# Altium schematic symbol library IDCI_WifiNode_2_R00.SchLib: 17 symbols
Pins are listed as number, name and electrical type; pins without a type are passive.

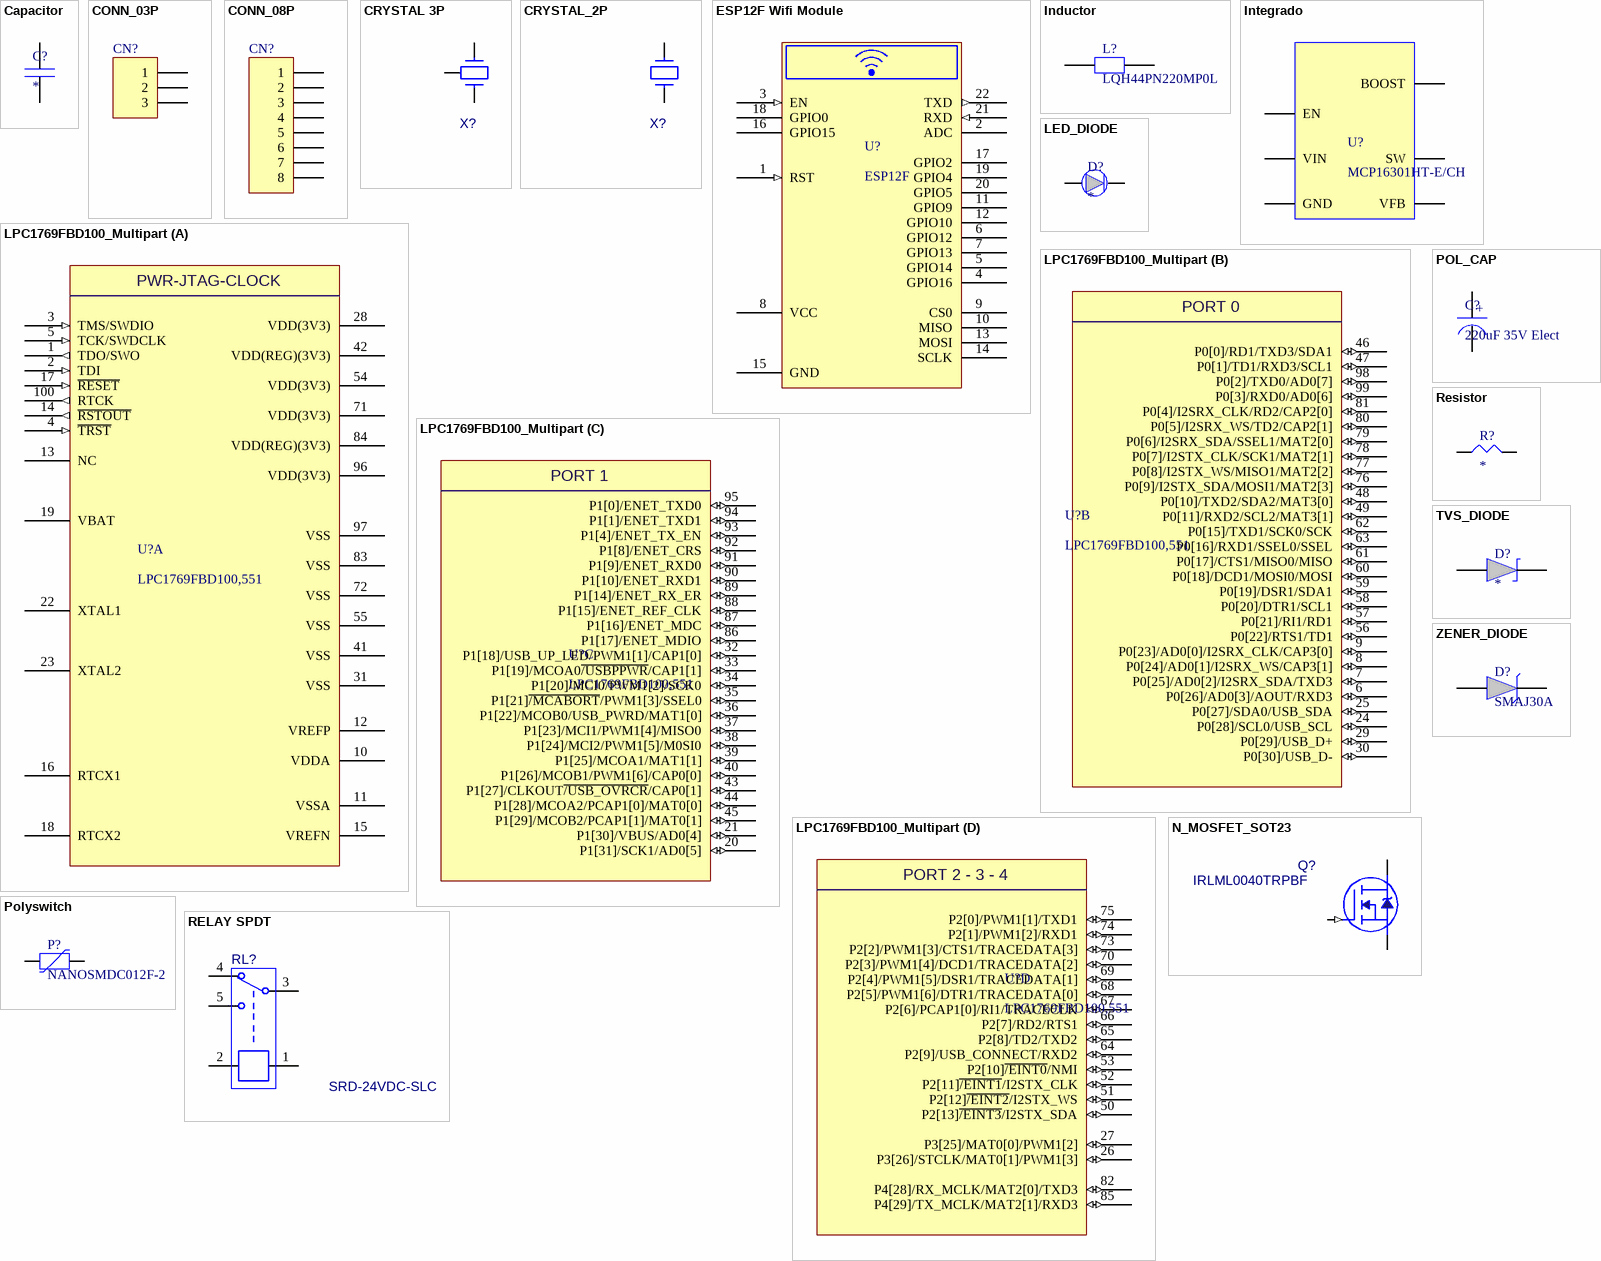
[diagram p0: symbols Capacitor to ZENER_DIODE]

## Capacitor
designator C?
100nF x 50v
pins: 1, 2

## CONN_03P
designator CN?
Connector Generic 3 Vias
pins: 1, 2, 3

## CONN_08P
designator CN?
Connector Generic 8 Vias
pins: 1, 2, 3, 4, 5, 6, 7, 8

## CRYSTAL 3P
designator X?
Crystal 2 Vias + GND
pins: 1, 2, 3

## CRYSTAL_2P
designator X?
Crystal 2 Vias
pins: 1, 2

## ESP12F Wifi Module
designator U?, comment ESP12F
Wifi Module
pins: 1 RST (in), 2 ADC, 3 EN (in), 4 GPIO16, 5 GPIO14, 6 GPIO12, 7 GPIO13, 8 VCC (power), 9 CS0, 10 MISO, 11 GPIO9, 12 GPIO10, 13 MOSI, 14 SCLK, 15 GND (power), 16 GPIO15, 17 GPIO2, 18 GPIO0, 19 GPIO4, 20 GPIO5, 21 RXD (in), 22 TXD (out)

## Inductor
designator L?, comment LQH44PN220MP0L
Inductor
pins: 1, 2

## Integrado
designator U?, comment MCP16301HT-E/CH
Driver Switching
pins: 1 BOOST, 2 GND, 3 VFB, 4 EN, 5 VIN, 6 SW

## LED_DIODE
designator D?
pins: 1, 2

## LPC1769FBD100_Multipart
designator U?, comment LPC1769FBD100,551
Mcu Cortex M3 LQFP100
part A pins: 1 TDO/SWO (out), 2 TDI (in), 3 TMS/SWDIO (in), 4 ~{TRST} (in), 5 TCK/SWDCLK (in), 10 VDDA (power), 11 VSSA (power), 12 VREFP (power), 13 NC, 14 ~{RSTOUT} (out), 15 VREFN (power), 16 RTCX1, 17 ~{RESET} (in), 18 RTCX2, 19 VBAT (power), 22 XTAL1, 23 XTAL2, 28 VDD(3V3) (power), 31 VSS (power), 41 VSS (power), 42 VDD(REG)(3V3) (power), 54 VDD(3V3) (power), 55 VSS (power), 71 VDD(3V3) (power), 72 VSS (power), 83 VSS (power), 84 VDD(REG)(3V3) (power), 96 VDD(3V3) (power), 97 VSS (power), 100 RTCK (out)
part B pins: 6 P0[26]/AD0[3]/AOUT/RXD3 (io), 7 P0[25]/AD0[2]/I2SRX_SDA/TXD3 (io), 8 P0[24]/AD0[1]/I2SRX_WS/CAP3[1] (io), 9 P0[23]/AD0[0]/I2SRX_CLK/CAP3[0] (io), 24 P0[28]/SCL0/USB_SCL (io), 25 P0[27]/SDA0/USB_SDA (io), 29 P0[29]/USB_D+ (io), 30 P0[30]/USB_D- (io), 46 P0[0]/RD1/TXD3/SDA1 (io), 47 P0[1]/TD1/RXD3/SCL1 (io), 48 P0[10]/TXD2/SDA2/MAT3[0] (io), 49 P0[11]/RXD2/SCL2/MAT3[1] (io), 56 P0[22]/RTS1/TD1 (io), 57 P0[21]/RI1/RD1 (io), 58 P0[20]/DTR1/SCL1 (io), 59 P0[19]/DSR1/SDA1 (io), 60 P0[18]/DCD1/MOSI0/MOSI (io), 61 P0[17]/CTS1/MISO0/MISO (io), 62 P0[15]/TXD1/SCK0/SCK (io), 63 P0[16]/RXD1/SSEL0/SSEL (io), 76 P0[9]/I2STX_SDA/MOSI1/MAT2[3] (io), 77 P0[8]/I2STX_WS/MISO1/MAT2[2] (io), 78 P0[7]/I2STX_CLK/SCK1/MAT2[1] (io), 79 P0[6]/I2SRX_SDA/SSEL1/MAT2[0] (io), 80 P0[5]/I2SRX_WS/TD2/CAP2[1] (io), 81 P0[4]/I2SRX_CLK/RD2/CAP2[0] (io), 98 P0[2]/TXD0/AD0[7] (io), 99 P0[3]/RXD0/AD0[6] (io)
part C pins: 20 P1[31]/SCK1/AD0[5] (io), 21 P1[30]/VBUS/AD0[4] (io), 32 P1[18]/USB_UP_LED/PWM1[1]/CAP1[0] (io), 33 P1[19]/MCOA0~{/USBPPWR}/CAP1[1] (io), 34 P1[20]/MCI0/PWM1[2]/SCK0 (io), 35 P1[21]~{/MCABORT}/PWM1[3]/SSEL0 (io), 36 P1[22]/MCOB0/USB_PWRD/MAT1[0] (io), 37 P1[23]/MCI1/PWM1[4]/MISO0 (io), 38 P1[24]/MCI2/PWM1[5]/M0SI0 (io), 39 P1[25]/MCOA1/MAT1[1] (io), 40 P1[26]/MCOB1/PWM1[6]/CAP0[0] (io), 43 P1[27]/CLKOUT~{/USB_OVRCR}/CAP0[1] (io), 44 P1[28]/MCOA2/PCAP1[0]/MAT0[0] (io), 45 P1[29]/MCOB2/PCAP1[1]/MAT0[1] (io), 86 P1[17]/ENET_MDIO (io), 87 P1[16]/ENET_MDC (io), 88 P1[15]/ENET_REF_CLK (io), 89 P1[14]/ENET_RX_ER (io), 90 P1[10]/ENET_RXD1 (io), 91 P1[9]/ENET_RXD0 (io), 92 P1[8]/ENET_CRS (io), 93 P1[4]/ENET_TX_EN (io), 94 P1[1]/ENET_TXD1 (io), 95 P1[0]/ENET_TXD0 (io)
part D pins: 26 P3[26]/STCLK/MAT0[1]/PWM1[3] (io), 27 P3[25]/MAT0[0]/PWM1[2] (io), 50 P2[13]~{/EINT3}/I2STX_SDA (io), 51 P2[12]~{/EINT2}/I2STX_WS (io), 52 P2[11]~{/EINT1}/I2STX_CLK (io), 53 P2[10]~{/EINT0}/NMI (io), 64 P2[9]/USB_CONNECT/RXD2 (io), 65 P2[8]/TD2/TXD2 (io), 66 P2[7]/RD2/RTS1 (io), 67 P2[6]/PCAP1[0]/RI1/TRACECLK (io), 68 P2[5]/PWM1[6]/DTR1/TRACEDATA[0] (io), 69 P2[4]/PWM1[5]/DSR1/TRACEDATA[1] (io), 70 P2[3]/PWM1[4]/DCD1/TRACEDATA[2] (io), 73 P2[2]/PWM1[3]/CTS1/TRACEDATA[3] (io), 74 P2[1]/PWM1[2]/RXD1 (io), 75 P2[0]/PWM1[1]/TXD1 (io), 82 P4[28]/RX_MCLK/MAT2[0]/TXD3 (io), 85 P4[29]/TX_MCLK/MAT2[1]/RXD3 (io)
part A text: PWR-JTAG-CLOCK
part B text: PORT 0
part C text: PORT 1
part D text: PORT 2 - 3 - 4

## N_MOSFET_SOT23
designator Q?, comment IRLML0040TRPBF
Mosfet N-Ch
pins: 1 GATE (in), 2 SOURCE, 3 DRAIN

## POL_CAP
designator C?, comment 220uF 35V Elect
Capacitor polarizado
pins: 1, 2
text: +

## Polyswitch
designator P?, comment NANOSMDC012F-2
Polyswitch
pins: 1, 2

## RELAY SPDT
designator RL?, comment SRD-24VDC-SLC
Relay SPDT
pins: 1, 2, 3, 4, 5

## Resistor
designator R?
pins: 1, 2

## TVS_DIODE
designator D?
pins: 1, 2

## ZENER_DIODE
designator D?, comment SMAJ30A
pins: 1, 2